# EAGLE library part DSPIC30F4011 (library 000001)
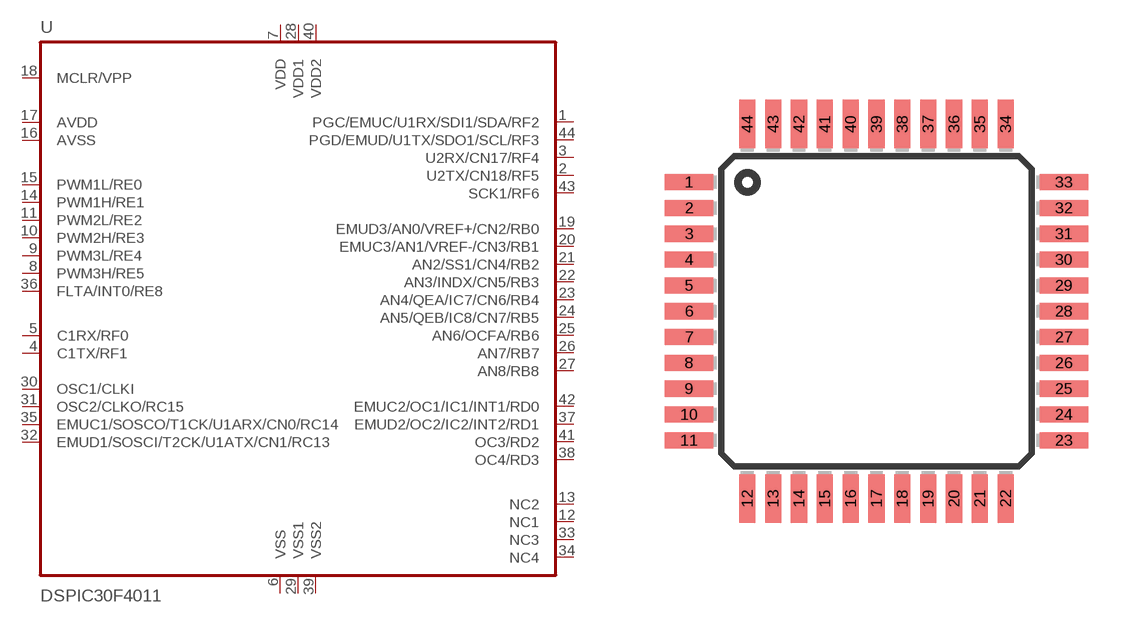
[diagram p23: symbol with the pads of TQFP44; footprint TQFP44]

Designator prefix -

## DSPIC30F4011  [TQFP44]
1  PGC/EMUC/U1RX/SDI1/SDA/RF2
2  U2TX/CN18/RF5
3  U2RX/CN17/RF4
4  C1TX/RF1
5  C1RX/RF0
6  VSS  pwr
7  VDD  pwr
8  PWM3H/RE5
9  PWM3L/RE4
10  PWM2H/RE3
11  PWM2L/RE2
12  NC1
13  NC2
14  PWM1H/RE1
15  PWM1L/RE0
16  AVSS
17  AVDD
18  MCLR/VPP  in
19  EMUD3/AN0/VREF+/CN2/RB0
20  EMUC3/AN1/VREF-/CN3/RB1
21  AN2/SS1/CN4/RB2
22  AN3/INDX/CN5/RB3
23  AN4/QEA/IC7/CN6/RB4
24  AN5/QEB/IC8/CN7/RB5
25  AN6/OCFA/RB6
26  AN7/RB7
27  AN8/RB8
28  VDD1  pwr
29  VSS1  pwr
30  OSC1/CLKI
31  OSC2/CLKO/RC15
32  EMUD1/SOSCI/T2CK/U1ATX/CN1/RC13
33  NC3
34  NC4
35  EMUC1/SOSCO/T1CK/U1ARX/CN0/RC14
36  FLTA/INT0/RE8
37  EMUD2/OC2/IC2/INT2/RD1
38  OC4/RD3
39  VSS2  pwr
40  VDD2  pwr
41  OC3/RD2
42  EMUC2/OC1/IC1/INT1/RD0
43  SCK1/RF6
44  PGD/EMUD/U1TX/SDO1/SCL/RF3

## Footprint TQFP44 (pad centres in mm)
Thin Quad Flat Pack package type TQ
smd 1.5 x 0.5: 1 -5.8,4; 2 -5.8,3.2; 3 -5.8,2.4; 4 -5.8,1.6; 5 -5.8,0.8; 6 -5.8,0; 7 -5.8,-0.8; 8 -5.8,-1.6; 9 -5.8,-2.4; 10 -5.8,-3.2; 11 -5.8,-4; 23 5.8,-4; 24 5.8,-3.2; 25 5.8,-2.4; 26 5.8,-1.6; 27 5.8,-0.8; 28 5.8,0; 29 5.8,0.8; 30 5.8,1.6; 31 5.8,2.4; 32 5.8,3.2; 33 5.8,4
smd 0.5 x 1.5: 12 -4,-5.8; 13 -3.2,-5.8; 14 -2.4,-5.8; 15 -1.6,-5.8; 16 -0.8,-5.8; 17 0,-5.8; 18 0.8,-5.8; 19 1.6,-5.8; 20 2.4,-5.8; 21 3.2,-5.8; 22 4,-5.8; 34 4,5.8; 35 3.2,5.8; 36 2.4,5.8; 37 1.6,5.8; 38 0.8,5.8; 39 0,5.8; 40 -0.8,5.8; 41 -1.6,5.8; 42 -2.4,5.8; 43 -3.2,5.8; 44 -4,5.8